# Altium schematic symbol library SnapEDAsch.SchLib: 1 symbol
Pins are listed as number, name and electrical type; pins without a type are passive.

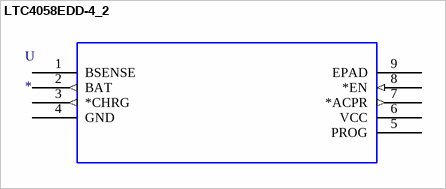
[diagram p0: symbol LTC4058EDD-4_2]

## LTC4058EDD-4_2
designator U
Charger IC Lithium-Ion 8-DFN _3x3_; MF: Linear Technology; MP: LTC4058EDD-4.2; Value: *; Package: None; Price: None; Availability: Unavailable; SnapEDA_Link: https://www.snapeda.com/parts/LTC4058EDD-4.2/Analog%20Devices/view-part/623622/?ref=snap
footprint DFN-8_DD
pins: 1 BSENSE, 2 BAT (out), 3 *CHRG (out), 4 GND (power), 5 PROG, 6 VCC (power), 7 *ACPR (out), 8 *EN (in), 9 EPAD